# EAGLE library part LTS4940 (library Traficon)
CT: 26/03/08: created package, 7segment display from "the bakskes behind me" (now only available from Mouser)
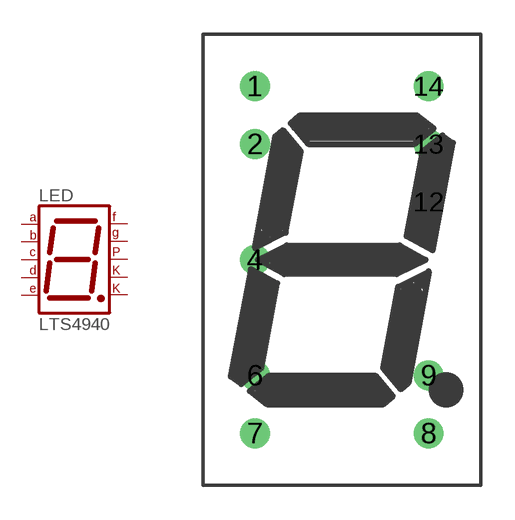
[diagram p185: symbol with the pads of LTS4940; footprint LTS4940]

Designator prefix LED

## LTS4940AHR  [LTS4940]
1  F  pas
2  G  pas
4  CK1  pas
6  E  pas
7  D  pas
8  C  pas
9  DP  pas
12  CK2  pas
13  B  pas
14  A  pas

## Footprint LTS4940 (pad centres in mm)
drill 0.8 round: 1 -5.08,5.08; 2 -5.08,2.54; 4 -5.08,-2.54; 6 -5.08,-7.62; 7 -5.08,-10.16; 8 2.54,-10.16; 9 2.54,-7.62; 12 2.54,0; 13 2.54,2.54; 14 2.54,5.08